# EAGLE library part TMS320C32 (library DSP Texas)
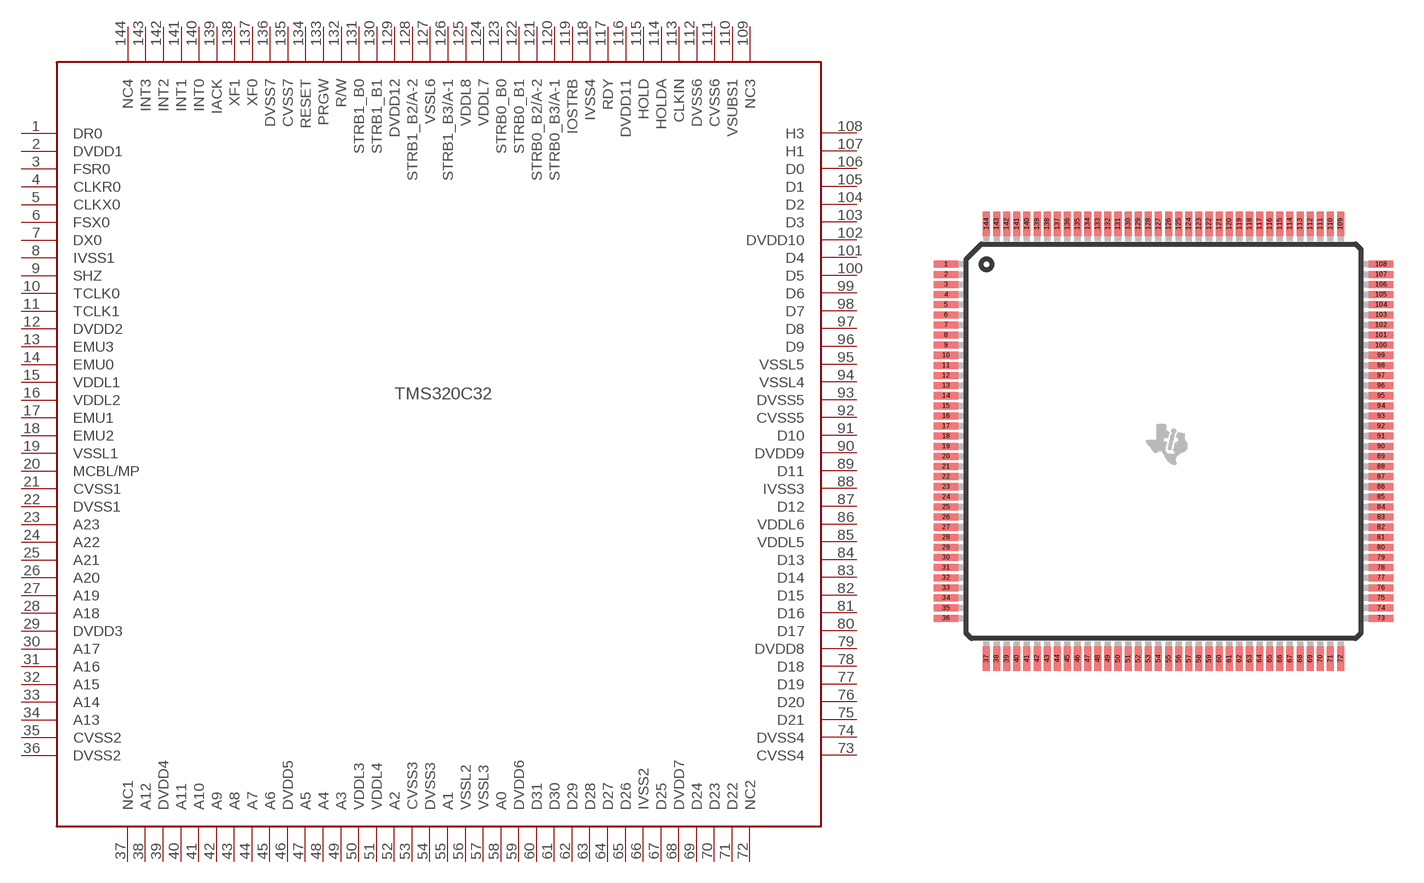
[diagram p0: symbol with the pads of PQFP144; footprint PQFP144]

Designator prefix -

## TMS320C32  [PQFP144]
1  DR0
2  DVDD1
3  FSR0
4  CLKR0
5  CLKX0
6  FSX0
7  DX0
8  IVSS1
9  SHZ
10  TCLK0
11  TCLK1
12  DVDD2
13  EMU3
14  EMU0
15  VDDL1
16  VDDL2
17  EMU1
18  EMU2
19  VSSL1
20  MCBL/MP
21  CVSS1
22  DVSS1
23  A23
24  A22
25  A21
26  A20
27  A19
28  A18
29  DVDD3
30  A17
31  A16
32  A15
33  A14
34  A13
35  CVSS2
36  DVSS2
37  NC1
38  A12
39  DVDD4
40  A11
41  A10
42  A9
43  A8
44  A7
45  A6
46  DVDD5
47  A5
48  A4
49  A3
50  VDDL3
51  VDDL4
52  A2
53  CVSS3
54  DVSS3
55  A1
56  VSSL2
57  VSSL3
58  A0
59  DVDD6
60  D31
61  D30
62  D29
63  D28
64  D27
65  D26
66  IVSS2
67  D25
68  DVDD7
69  D24
70  D23
71  D22
72  NC2
73  CVSS4
74  DVSS4
75  D21
76  D20
77  D19
78  D18
79  DVDD8
80  D17
81  D16
82  D15
83  D14
84  D13
85  VDDL5
86  VDDL6
87  D12
88  IVSS3
89  D11
90  DVDD9
91  D10
92  CVSS5
93  DVSS5
94  VSSL4
95  VSSL5
96  D9
97  D8
98  D7
99  D6
100  D5
101  D4
102  DVDD10
103  D3
104  D2
105  D1
106  D0
107  H1
108  H3
109  NC3
110  VSUBS1
111  CVSS6
112  DVSS6
113  CLKIN
114  HOLDA
115  HOLD
116  DVDD11
117  RDY
118  IVSS4
119  IOSTRB
120  STRB0_B3/A-1
121  STRB0_B2/A-2
122  STRB0_B1
123  STRB0_B0
124  VDDL7
125  VDDL8
126  STRB1_B3/A-1
127  VSSL6
128  STRB1_B2/A-2
129  DVDD12
130  STRB1_B1
131  STRB1_B0
132  R/W
133  PRGW
134  RESET
135  CVSS7
136  DVSS7
137  XF0
138  XF1
139  IACK
140  INT0
141  INT1
142  INT2
143  INT3
144  NC4

## Footprint PQFP144 (pad centres in mm)
Platic Quad Flat Package PGE (S-PQFP-G144)
smd 1.2 x 0.35: 1 -10.75,8.75; 2 -10.75,8.25; 3 -10.75,7.75; 4 -10.75,7.25; 5 -10.75,6.75; 6 -10.75,6.25; 7 -10.75,5.75; 8 -10.75,5.25; 9 -10.75,4.75; 10 -10.75,4.25; 11 -10.75,3.75; 12 -10.75,3.25; 13 -10.75,2.75; 14 -10.75,2.25; 15 -10.75,1.75; 16 -10.75,1.25; 17 -10.75,0.75; 18 -10.75,0.25; 19 -10.75,-0.25; 20 -10.75,-0.75; 21 -10.75,-1.25; 22 -10.75,-1.75; 23 -10.75,-2.25; 24 -10.75,-2.75; 25 -10.75,-3.25; 26 -10.75,-3.75; 27 -10.75,-4.25; 28 -10.75,-4.75; 29 -10.75,-5.25; 30 -10.75,-5.75; 31 -10.75,-6.25; 32 -10.75,-6.75; 33 -10.75,-7.25; 34 -10.75,-7.75; 35 -10.75,-8.25; 36 -10.75,-8.75; 73 10.75,-8.75; 74 10.75,-8.25; 75 10.75,-7.75; 76 10.75,-7.25; 77 10.75,-6.75; 78 10.75,-6.25; 79 10.75,-5.75; 80 10.75,-5.25; 81 10.75,-4.75; 82 10.75,-4.25; 83 10.75,-3.75; 84 10.75,-3.25; 85 10.75,-2.75; 86 10.75,-2.25; 87 10.75,-1.75; 88 10.75,-1.25; 89 10.75,-0.75; 90 10.75,-0.25; 91 10.75,0.25; 92 10.75,0.75; 93 10.75,1.25; 94 10.75,1.75; 95 10.75,2.25; 96 10.75,2.75; 97 10.75,3.25; 98 10.75,3.75; 99 10.75,4.25; 100 10.75,4.75; 101 10.75,5.25; 102 10.75,5.75; 103 10.75,6.25; 104 10.75,6.75; 105 10.75,7.25; 106 10.75,7.75; 107 10.75,8.25; 108 10.75,8.75
smd 0.35 x 1.2: 37 -8.75,-10.75; 38 -8.25,-10.75; 39 -7.75,-10.75; 40 -7.25,-10.75; 41 -6.75,-10.75; 42 -6.25,-10.75; 43 -5.75,-10.75; 44 -5.25,-10.75; 45 -4.75,-10.75; 46 -4.25,-10.75; 47 -3.75,-10.75; 48 -3.25,-10.75; 49 -2.75,-10.75; 50 -2.25,-10.75; 51 -1.75,-10.75; 52 -1.25,-10.75; 53 -0.75,-10.75; 54 -0.25,-10.75; 55 0.25,-10.75; 56 0.75,-10.75; 57 1.25,-10.75; 58 1.75,-10.75; 59 2.25,-10.75; 60 2.75,-10.75; 61 3.25,-10.75; 62 3.75,-10.75; 63 4.25,-10.75; 64 4.75,-10.75; 65 5.25,-10.75; 66 5.75,-10.75; 67 6.25,-10.75; 68 6.75,-10.75; 69 7.25,-10.75; 70 7.75,-10.75; 71 8.25,-10.75; 72 8.75,-10.75; 109 8.75,10.75; 110 8.25,10.75; 111 7.75,10.75; 112 7.25,10.75; 113 6.75,10.75; 114 6.25,10.75; 115 5.75,10.75; 116 5.25,10.75; 117 4.75,10.75; 118 4.25,10.75; 119 3.75,10.75; 120 3.25,10.75; 121 2.75,10.75; 122 2.25,10.75; 123 1.75,10.75; 124 1.25,10.75; 125 0.75,10.75; 126 0.25,10.75; 127 -0.25,10.75; 128 -0.75,10.75; 129 -1.25,10.75; 130 -1.75,10.75; 131 -2.25,10.75; 132 -2.75,10.75; 133 -3.25,10.75; 134 -3.75,10.75; 135 -4.25,10.75; 136 -4.75,10.75; 137 -5.25,10.75; 138 -5.75,10.75; 139 -6.25,10.75; 140 -6.75,10.75; 141 -7.25,10.75; 142 -7.75,10.75; 143 -8.25,10.75; 144 -8.75,10.75